# EAGLE library part BSE-020-01-X-D-A (library samtec)
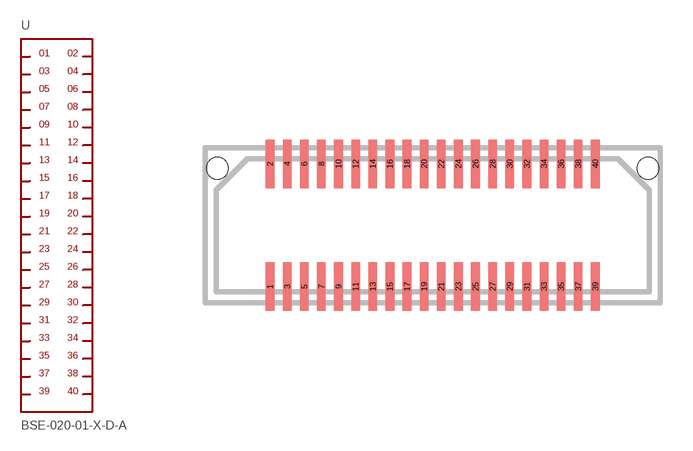
[diagram p15: symbol with the pads of BSE-020-01-X-D-A; footprint BSE-020-01-X-D-A]

Designator prefix -

## BSE-020-01-X-D-A  [BSE-020-01-X-D-A]
1  1
2  2
3  3
4  4
5  5
6  6
7  7
8  8
9  9
10  10
11  11
12  12
13  13
14  14
15  15
16  16
17  17
18  18
19  19
20  20
21  21
22  22
23  23
24  24
25  25
26  26
27  27
28  28
29  29
30  30
31  31
32  32
33  33
34  34
35  35
36  36
37  37
38  38
39  39
40  40

## Footprint BSE-020-01-X-D-A (pad centres in mm)
PCB Libraries Package
smd 0.406 x 2.273: 1 -7.6,-2.864; 2 -7.6,2.864; 3 -6.8,-2.864; 4 -6.8,2.864; 5 -6,-2.864; 6 -6,2.864; 7 -5.2,-2.864; 8 -5.2,2.864; 9 -4.4,-2.864; 10 -4.4,2.864; 11 -3.6,-2.864; 12 -3.6,2.864; 13 -2.8,-2.864; 14 -2.8,2.864; 15 -2,-2.864; 16 -2,2.864; 17 -1.2,-2.864; 18 -1.2,2.864; 19 -0.4,-2.864; 20 -0.4,2.864; 21 0.4,-2.864; 22 0.4,2.864; 23 1.2,-2.864; 24 1.2,2.864; 25 2,-2.864; 26 2,2.864; 27 2.8,-2.864; 28 2.8,2.864; 29 3.6,-2.864; 30 3.6,2.864; 31 4.4,-2.864; 32 4.4,2.864; 33 5.2,-2.864; 34 5.2,2.864; 35 6,-2.864; 36 6,2.864; 37 6.8,-2.864; 38 6.8,2.864; 39 7.6,-2.864; 40 7.6,2.864
hole 1.016 at -10.064,2.67
hole 1.016 at 10.064,2.67